# Altium schematic symbol library LM2576- ADJ.Schlib: 1 symbol
Pins are listed as number, name and electrical type; pins without a type are passive.

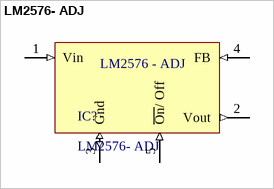
[diagram p0: symbol LM2576- ADJ]

## LM2576- ADJ
designator IC?
pins: 1 Vin (in) "Input", 2 Vout (out) "Output", 3 Gnd (io) "Input", 4 FB (in) "Input", 5 ~{On}/ Off (in) "Input"
text: LM2576 - ADJ